# EAGLE library part M40-3020546 (library SamacSys_Parts)
1.00mm (0.039") Pitch PCB Connector - M40 Cable-To-Board Source: Datasheet <https://cdn.harwin.com/pdfs/M40-302.pdf>
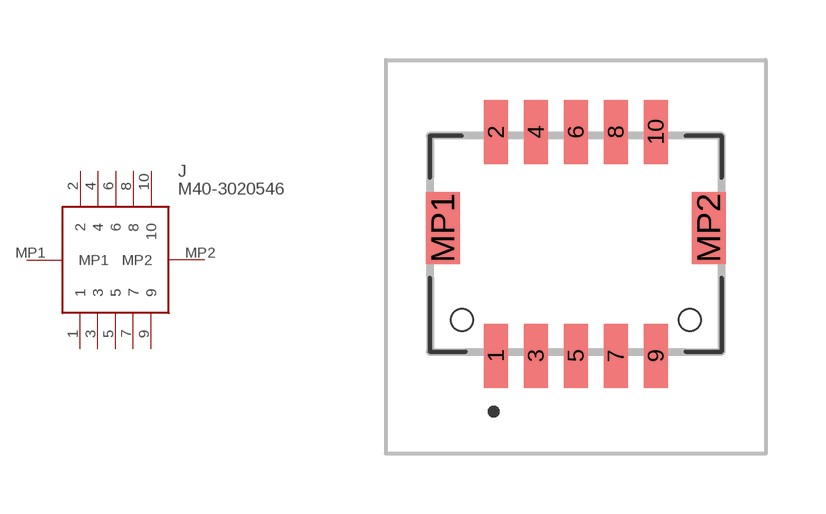
[diagram p32: symbol with the pads of M403020546; footprint M403020546]

Designator prefix J

## M40-3020546 (ARROW_PART_NUMBER: M40-3020546; DESCRIPTION: 1.00mm (0.039") Pitch PCB Connector - M40 Cable-To-Board; HEIGHT: 4.8mm; MANUFACTURER_NAME: Harwin; MANUFACTURER_PART_NUMBER: M40-3020546)  [M403020546]
1  1
2  2
3  3
4  4
5  5
6  6
7  7
8  8
9  9
10  10
MP1  MP1
MP2  MP2

## Footprint M403020546 (pad centres in mm)
M40-3020546-1
smd 0.6 x 1.6: 1 -2,-2.8; 2 -2,2.8; 3 -1,-2.8; 4 -1,2.8; 5 0,-2.8; 6 0,2.8; 7 1,-2.8; 8 1,2.8; 9 2,-2.8; 10 2,2.8
smd 0.85 x 1.8: MP1 -3.325,0.4; MP2 3.325,0.4
hole 0.55 at -2.85,-1.9
hole 0.55 at 2.85,-1.9